# EAGLE library part MAX13253ATB+T (library MAX13253)
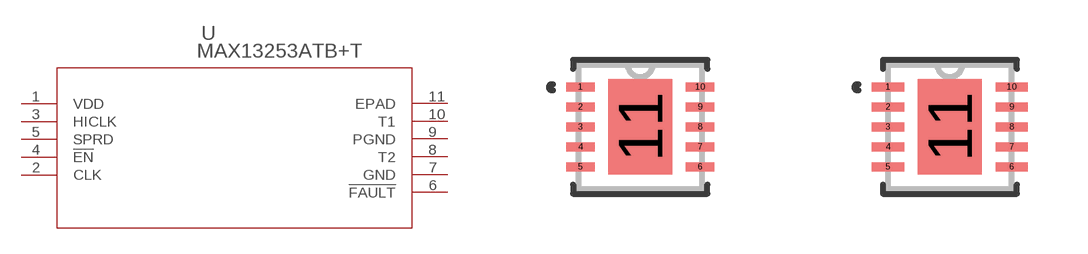
[diagram p0: symbol with the pads of 21-0137I_T1033-1_MXM; footprints 21-0137I_T1033-1_MXM, 21-0137I_T1033-1_MXM-M]

Designator prefix U

## MAX13253ATB+T (BUILT_BY: EMA_UL_Team; MANUFACTURER_PART_NUMBER: MAX13253ATB+T; SOURCELIBRARY: Maxim_2015-01-06; VENDOR: Maxim Integrated Products)  [21-0137I_T1033-1_MXM]
1  VDD  pwr
2  CLK  in
3  HICLK  in
4  !EN  in
5  SPRD  in
6  !FAULT  out
7  GND  pwr
8  T2  out
9  PGND  pwr
10  T1  out
11  EPAD  pas

## MAX13253ATB+T21-0137I_T1033-1_MXM-M (BUILT_BY: EMA_UL_Team; MANUFACTURER_PART_NUMBER: MAX13253ATB+T; SOURCELIBRARY: Maxim_2015-01-06; VENDOR: Maxim Integrated Products)  [21-0137I_T1033-1_MXM-M]
Pads as for 21-0137I_T1033-1_MXM

## MAX13253ATB+T21-0137I_T1033-1_MXM-L (BUILT_BY: EMA_UL_Team; MANUFACTURER_PART_NUMBER: MAX13253ATB+T; SOURCELIBRARY: Maxim_2015-01-06; VENDOR: Maxim Integrated Products)  [21-0137I_T1033-1_MXM-L]
Pads as for 21-0137I_T1033-1_MXM

## Footprint 21-0137I_T1033-1_MXM (pad centres in mm)
smd 0.706 x 0.225: 1 -1.496,1; 2 -1.496,0.5; 3 -1.496,0; 4 -1.496,-0.5; 5 -1.496,-1; 6 1.496,-1; 7 1.496,-0.5; 8 1.496,0; 9 1.496,0.5; 10 1.496,1
smd 1.6 x 2.388: 11 0,0

## Footprint 21-0137I_T1033-1_MXM-M (pad centres in mm)
smd 0.806 x 0.225: 1 -1.546,1; 2 -1.546,0.5; 3 -1.546,0; 4 -1.546,-0.5; 5 -1.546,-1; 6 1.546,-1; 7 1.546,-0.5; 8 1.546,0; 9 1.546,0.5; 10 1.546,1
smd 1.6 x 2.388: 11 0,0

## Footprint 21-0137I_T1033-1_MXM-L (pad centres in mm)
smd 0.606 x 0.225: 1 -1.446,1; 2 -1.446,0.5; 3 -1.446,0; 4 -1.446,-0.5; 5 -1.446,-1; 6 1.446,-1; 7 1.446,-0.5; 8 1.446,0; 9 1.446,0.5; 10 1.446,1
smd 1.6 x 2.388: 11 0,0